# Altium schematic symbol library SnapEDAsch.SchLib: 1 symbol
Pins are listed as number, name and electrical type; pins without a type are passive.

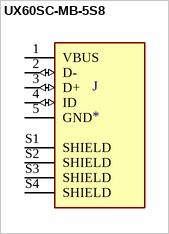
[diagram p0: symbol UX60SC-MB-5S8]

## UX60SC-MB-5S8
designator J
USB - mini B USB 2.0 Receptacle Connector 5 Position Surface Mount, Right Angle; Through Hole; MP: UX60SC-MB-5S8; MF: Hirose; Value: *; Package: None; SnapEDA_Link: https://www.snapeda.com/parts/UX60SC-MB-5S8/Hirose%20Electric%20Co%20Ltd/view-part/52507/?ref=snap; Digi-Key_Part_Number: H11589CT-ND; Digi-Key_Purchase_URL: https://www.digikey.com/product-detail/en/hirose-electric-co-ltd/UX60SC-MB-5S8/H11589CT-ND/1949225?utm_source=snapeda&utm_medium=aggregator&utm_campaign=symbol
footprint HIROSE_UX60SC-MB-5S8
pins: 1 VBUS (power), 2 D- (io), 3 D+ (io), 4 ID (io), 5 GND (power), S1 SHIELD (power), S2 SHIELD (power), S3 SHIELD (power), S4 SHIELD (power)